# Altium schematic symbol library Push Button Switch SMD.SchLib: 1 symbol
Pins are listed as number, name and electrical type; pins without a type are passive.

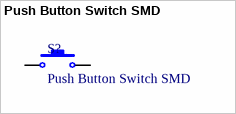
[diagram p0: symbol Push Button Switch SMD]

## Push Button Switch SMD
designator S?
footprint Push Button Switch SMD
pins: 1, 2